# EAGLE library part NUF221W1 (library Controller)
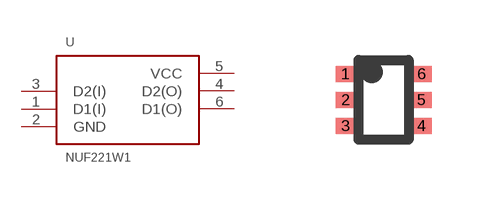
[diagram p35: symbol with the pads of SOT-363; footprint SOT-363]

Designator prefix U

## NUF221W1  [SOT-363]
1  D1(I)
2  GND
3  D2(I)
4  D2(O)
5  VCC
6  D1(O)

## Footprint SOT-363 (pad centres in mm)
smd 0.5 x 0.4: 1 -0.95,0.65; 2 -0.95,0; 3 -0.95,-0.65; 4 0.95,-0.65; 5 0.95,0; 6 0.95,0.65